# Altium schematic symbol library Interface_UART.SchLib: 143 symbols (part 2 of 2)
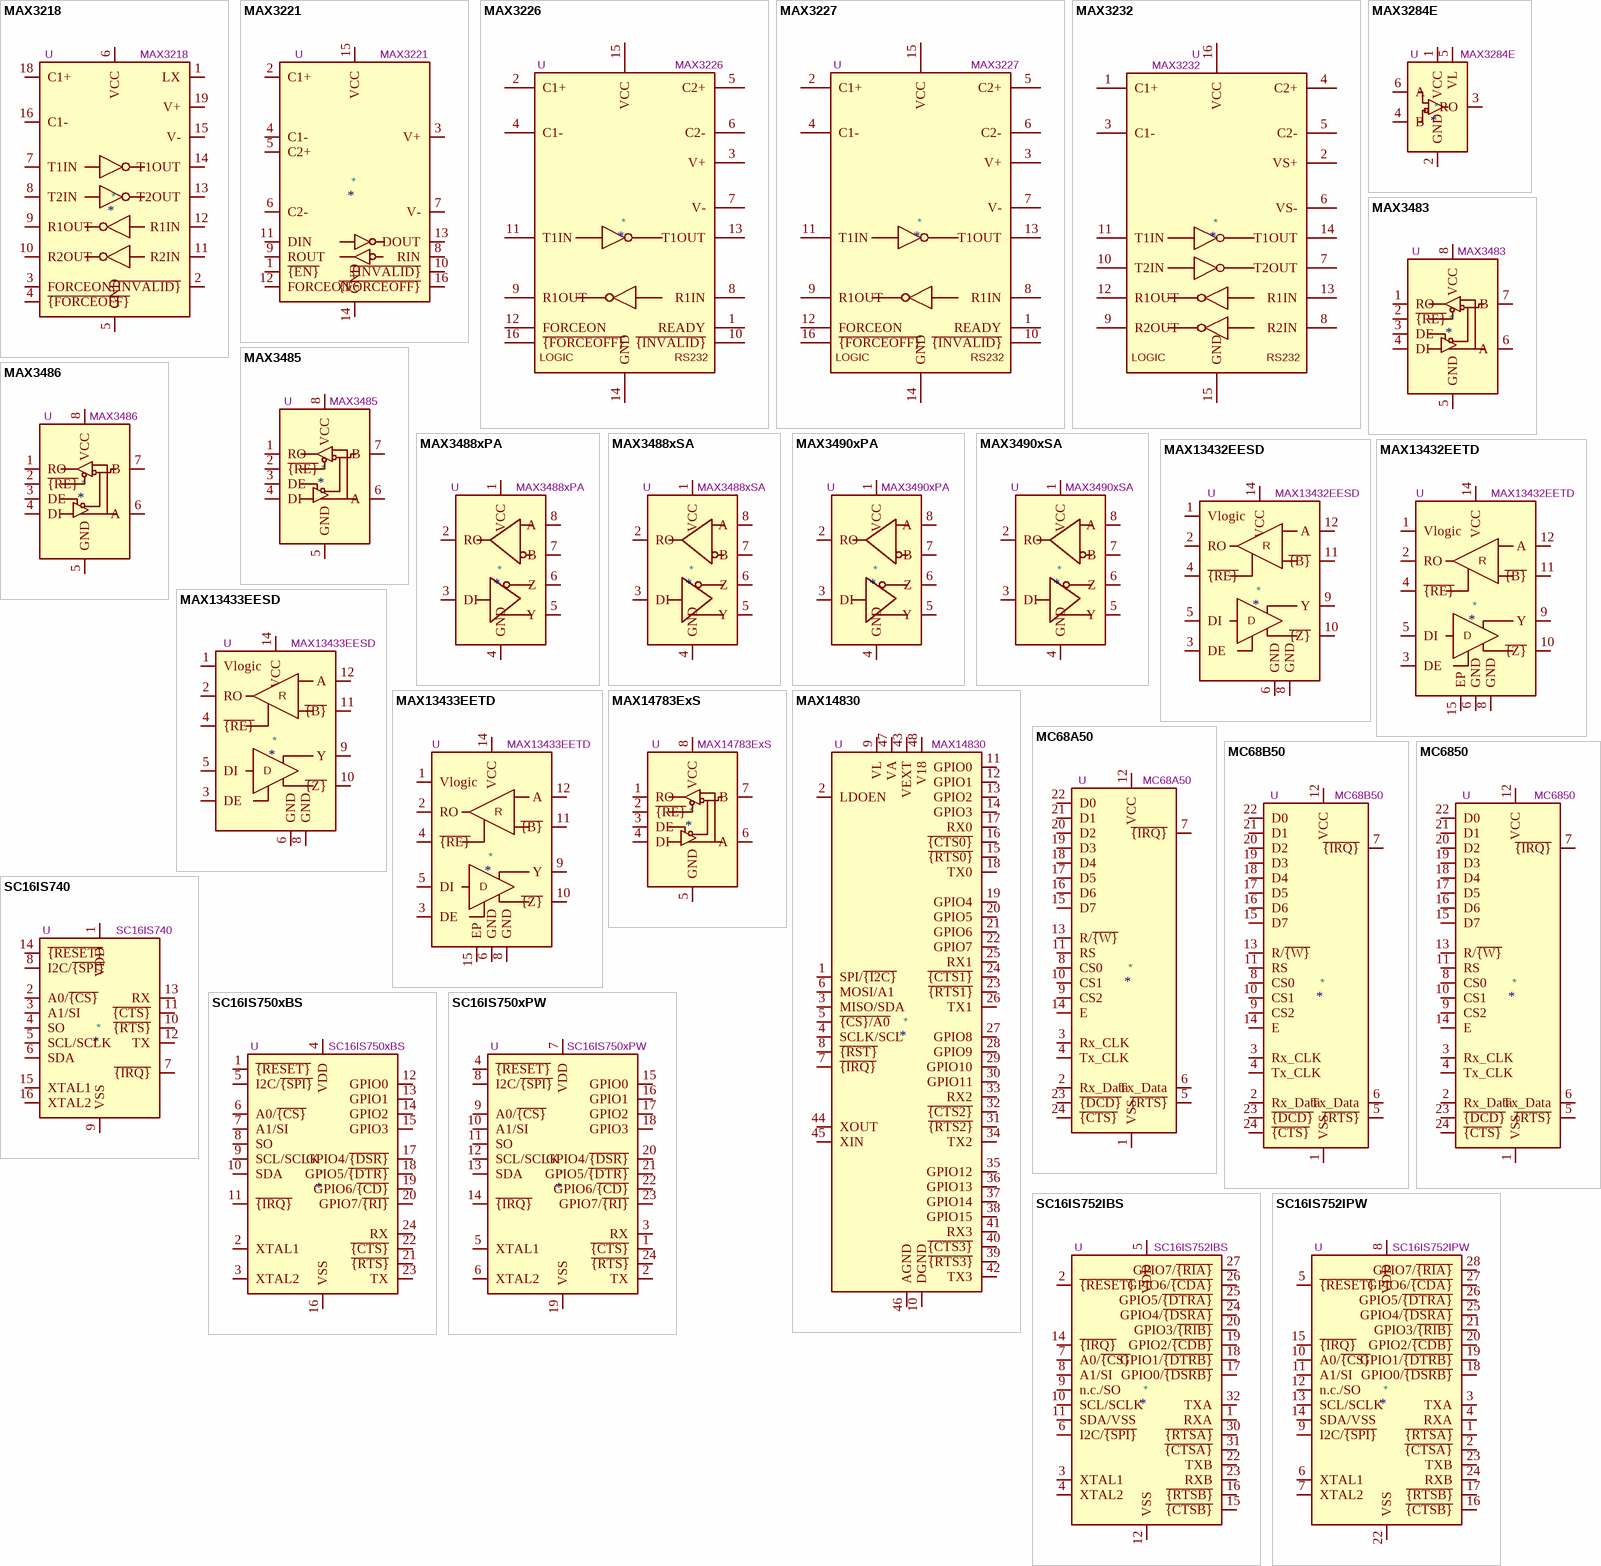
[diagram p5: symbols MAX3218 to SC16IS752IPW]

## MAX13433EETD
designator *  value MAX13433EETD  Reference: U
ki_keywords: rs485 transceiver; ki_description: RS485 transceiver, full duplex, dual supply, receiver/driver enable, 16Mbps, DFN-14 package; ki_fp_filters: DFN*3x3mm*P0.4mm*; Footprint: Package_DFN_QFN:DFN-14-1EP_3x3mm_P0.4mm_EP1.78x2.35mm; Datasheet: https://datasheets.maximintegrated.com/en/ds/MAX13430E-MAX13433E.pdf
pins: 1 Vlogic, 2 RO, 3 DE, 4 ~{{RE}}, 5 DI, 6 GND, 7 NC hidden, 8 GND, 9 Y, 10 ~{{Z}}, 11 ~{{B}}, 12 A, 13 NC hidden, 14 VCC, 15 EP
text: R; D

## MAX14783ExS
designator *  value MAX14783ExS  Reference: U
ki_keywords: High-Speed 3.3V/5V RS-485/RS-422 Transceiver ESD 42Mbps; ki_description: High-Speed 3.3V/5V RS-485/RS-422 Transceiver with ±35kV HBM ESD Protection, SOIC8; ki_fp_filters: SOIC*3.9x4.9mm*P1.27mm*; Footprint: Package_SO:SOIC-8_3.9x4.9mm_P1.27mm; Datasheet: https://datasheets.maximintegrated.com/en/ds/MAX14783E.pdf
pins: 1 RO, 2 ~{{RE}}, 3 DE, 4 DI, 5 GND, 6 A, 7 B, 8 VCC

## MAX14830
designator *  value MAX14830  Reference: U
ki_keywords: UART I2C/SPI 128W FIFO IrDA SIR; ki_description: Quad UART with I2C/SPI interface, 128 Word FIFOs, IrDA SIR built-in support, TQFN-48; ki_fp_filters: TQFN*1EP*7x7mm*P0.5mm*; Footprint: Package_DFN_QFN:TQFN-48-1EP_7x7mm_P0.5mm_EP5.1x5.1mm; Datasheet: https://datasheets.maximintegrated.com/en/ds/MAX14830.pdf
pins: 1 SPI/~{{I2C}}, 2 LDOEN, 3 MISO/SDA, 4 SCLK/SCL, 5 ~{{CS}/A0}, 6 MOSI/A1, 7 ~{{IRQ}}, 8 ~{{RST}}, 9 VL, 10 DGND, 11 GPIO0, 12 GPIO1, 13 GPIO2, 14 GPIO3, 15 ~{{RTS0}}, 16 ~{{CTS0}}, 17 RX0, 18 TX0, 19 GPIO4, 20 GPIO5, 21 GPIO6, 22 GPIO7, 23 ~{{RTS1}}, 24 ~{{CTS1}}, 25 RX1, 26 TX1, 27 GPIO8, 28 GPIO9, 29 GPIO10, 30 GPIO11, 31 ~{{RTS2}}, 32 ~{{CTS2}}, 33 RX2, 34 TX2, 35 GPIO12, 36 GPIO13, 37 GPIO14, 38 GPIO15, 39 ~{{RTS3}}, 40 ~{{CTS3}}, 41 RX3, 42 TX3, 43 VEXT, 44 XOUT, 45 XIN, 46 AGND, 47 VA, 48 V18, 49 AGND hidden

## MC68A50
designator *  value MC68A50  Reference: U
ki_keywords: ACIA; ki_description: Asynchronous Communications Interface Adapter 1.5MHz, DIP-40; ki_fp_filters: DIP*W15.24mm*; Footprint: Package_DIP:DIP-40_W15.24mm; Datasheet: http://pdf.datasheetcatalog.com/datasheet/motorola/MC6850.pdf
pins: 1 VSS, 2 Rx_Data, 3 Rx_CLK, 4 Tx_CLK, 5 ~{{RTS}}, 6 Tx_Data, 7 ~{{IRQ}}, 8 CS0, 9 CS2, 10 CS1, 11 RS, 12 VCC, 13 R/~{{W}}, 14 E, 15 D7, 16 D6, 17 D5, 18 D4, 19 D3, 20 D2, 21 D1, 22 D0, 23 ~{{DCD}}, 24 ~{{CTS}}

## MC68B50
designator *  value MC68B50  Reference: U
ki_keywords: ACIA; ki_description: Asynchronous Communications Interface Adapter 2MHz, DIP-40; ki_fp_filters: DIP*W15.24mm*; Footprint: Package_DIP:DIP-40_W15.24mm; Datasheet: http://pdf.datasheetcatalog.com/datasheet/motorola/MC6850.pdf
pins: 1 VSS, 2 Rx_Data, 3 Rx_CLK, 4 Tx_CLK, 5 ~{{RTS}}, 6 Tx_Data, 7 ~{{IRQ}}, 8 CS0, 9 CS2, 10 CS1, 11 RS, 12 VCC, 13 R/~{{W}}, 14 E, 15 D7, 16 D6, 17 D5, 18 D4, 19 D3, 20 D2, 21 D1, 22 D0, 23 ~{{DCD}}, 24 ~{{CTS}}

## MC6850
designator *  value MC6850  Reference: U
ki_keywords: ACIA; ki_description: Asynchronous Communications Interface Adapter 1MHz, DIP-40; ki_fp_filters: DIP*W15.24mm*; Footprint: Package_DIP:DIP-40_W15.24mm; Datasheet: http://pdf.datasheetcatalog.com/datasheet/motorola/MC6850.pdf
pins: 1 VSS, 2 Rx_Data, 3 Rx_CLK, 4 Tx_CLK, 5 ~{{RTS}}, 6 Tx_Data, 7 ~{{IRQ}}, 8 CS0, 9 CS2, 10 CS1, 11 RS, 12 VCC, 13 R/~{{W}}, 14 E, 15 D7, 16 D6, 17 D5, 18 D4, 19 D3, 20 D2, 21 D1, 22 D0, 23 ~{{DCD}}, 24 ~{{CTS}}

## SC16IS740
designator *  value SC16IS740  Reference: U
ki_keywords: UART I2C/SPI 64B FIFO IrDA SIR; ki_description: Single UART with I2C/SPI interface, 64 bytes of transmit and receive FIFOs, IrDA SIR built-in support, TSSOP-16; ki_fp_filters: TSSOP*4.4x5mm*P0.65mm*; Footprint: Package_SO:TSSOP-16_4.4x5mm_P0.65mm; Datasheet: https://www.nxp.com/docs/en/data-sheet/SC16IS740_750_760.pdf
pins: 1 VDD, 2 A0/~{{CS}}, 3 A1/SI, 4 SO, 5 SCL/SCLK, 6 SDA, 7 ~{{IRQ}}, 8 I2C/~{{SPI}}, 9 VSS, 10 ~{{RTS}}, 11 ~{{CTS}}, 12 TX, 13 RX, 14 ~{{RESET}}, 15 XTAL1, 16 XTAL2

## SC16IS750xBS
designator *  value SC16IS750xBS  Reference: U
ki_keywords: UART I2C/SPI 64B FIFO IrDA SIR; ki_description: Single UART with I2C/SPI interface, 64 bytes of transmit and receive FIFOs, IrDA SIR built-in support, HVQFN-24; ki_fp_filters: HVQFN*1EP*4x4mm*P0.5mm*; Footprint: Package_DFN_QFN:HVQFN-24-1EP_4x4mm_P0.5mm_EP2.5x2.5mm; Datasheet: https://www.nxp.com/docs/en/data-sheet/SC16IS740_750_760.pdf
pins: 1 ~{{RESET}}, 2 XTAL1, 3 XTAL2, 4 VDD, 5 I2C/~{{SPI}}, 6 A0/~{{CS}}, 7 A1/SI, 8 SO, 9 SCL/SCLK, 10 SDA, 11 ~{{IRQ}}, 12 GPIO0, 13 GPIO1, 14 GPIO2, 15 GPIO3, 16 VSS, 17 GPIO4/~{{DSR}}, 18 GPIO5/~{{DTR}}, 19 GPIO6/~{{CD}}, 20 GPIO7/~{{RI}}, 21 ~{{RTS}}, 22 ~{{CTS}}, 23 TX, 24 RX, 25 VSS hidden

## SC16IS750xPW
designator *  value SC16IS750xPW  Reference: U
ki_keywords: UART I2C/SPI 64B FIFO IrDA SIR; ki_description: Single UART with I2C/SPI interface, 64 bytes of transmit and receive FIFOs, IrDA SIR built-in support, TSSOP-24; ki_fp_filters: TSSOP*4.4x7.8mm*P0.65mm*; Footprint: Package_SO:TSSOP-24_4.4x7.8mm_P0.65mm; Datasheet: https://www.nxp.com/docs/en/data-sheet/SC16IS740_750_760.pdf
pins: 1 ~{{CTS}}, 2 TX, 3 RX, 4 ~{{RESET}}, 5 XTAL1, 6 XTAL2, 7 VDD, 8 I2C/~{{SPI}}, 9 A0/~{{CS}}, 10 A1/SI, 11 SO, 12 SCL/SCLK, 13 SDA, 14 ~{{IRQ}}, 15 GPIO0, 16 GPIO1, 17 GPIO2, 18 GPIO3, 19 VSS, 20 GPIO4/~{{DSR}}, 21 GPIO5/~{{DTR}}, 22 GPIO6/~{{CD}}, 23 GPIO7/~{{RI}}, 24 ~{{RTS}}

## SC16IS752IBS
designator *  value SC16IS752IBS  Reference: U
ki_keywords: UART I2C/SPI 64B FIFO IrDA SIR; ki_description: Dual UART with I2C/SPI interface, 64 bytes of transmit and receive FIFOs, IrDA SIR built-in support, HVQFN-32; ki_fp_filters: VQFN*1EP*5x5mm*P0.5mm*; Footprint: Package_DFN_QFN:VQFN-32-1EP_5x5mm_P0.5mm_EP3.1x3.1mm; Datasheet: https://www.nxp.com/docs/en/data-sheet/SC16IS752_SC16IS762.pdf
pins: 1 RXA, 2 ~{{RESET}}, 3 XTAL1, 4 XTAL2, 5 VDD, 6 I2C/~{{SPI}}, 7 A0/~{{CS}}, 8 A1/SI, 9 n.c./SO, 10 SCL/SCLK, 11 SDA/VSS, 12 VSS, 13 VDD hidden, 14 ~{{IRQ}}, 15 ~{{CTSB}}, 16 ~{{RTSB}}, 17 GPIO0/~{{DSRB}}, 18 GPIO1/~{{DTRB}}, 19 GPIO2/~{{CDB}}, 20 GPIO3/~{{RIB}}, 21 VSS hidden, 22 TXB, 23 RXB, 24 GPIO4/~{{DSRA}}, 25 GPIO5/~{{DTRA}}, 26 GPIO6/~{{CDA}}, 27 GPIO7/~{{RIA}}, 28 VDD hidden, 29 VSS hidden, 30 ~{{RTSA}}, 31 ~{{CTSA}}, 32 TXA, 33 VSS hidden

## SC16IS752IPW
designator *  value SC16IS752IPW  Reference: U
ki_keywords: UART I2C/SPI 64B FIFO IrDA SIR; ki_description: Dual UART with I2C/SPI interface, 64 bytes of transmit and receive FIFOs, IrDA SIR built-in support, TSSOP-28; ki_fp_filters: TSSOP*4.4x9.7mm*P0.65mm*; Footprint: Package_SO:TSSOP-28_4.4x9.7mm_P0.65mm; Datasheet: https://www.nxp.com/docs/en/data-sheet/SC16IS752_SC16IS762.pdf
pins: 1 ~{{RTSA}}, 2 ~{{CTSA}}, 3 TXA, 4 RXA, 5 ~{{RESET}}, 6 XTAL1, 7 XTAL2, 8 VDD, 9 I2C/~{{SPI}}, 10 A0/~{{CS}}, 11 A1/SI, 12 n.c./SO, 13 SCL/SCLK, 14 SDA/VSS, 15 ~{{IRQ}}, 16 ~{{CTSB}}, 17 ~{{RTSB}}, 18 GPIO0/~{{DSRB}}, 19 GPIO1/~{{DTRB}}, 20 GPIO2/~{{CDB}}, 21 GPIO3/~{{RIB}}, 22 VSS, 23 TXB, 24 RXB, 25 GPIO4/~{{DSRA}}, 26 GPIO5/~{{DTRA}}, 27 GPIO6/~{{CDA}}, 28 GPIO7/~{{RIA}}

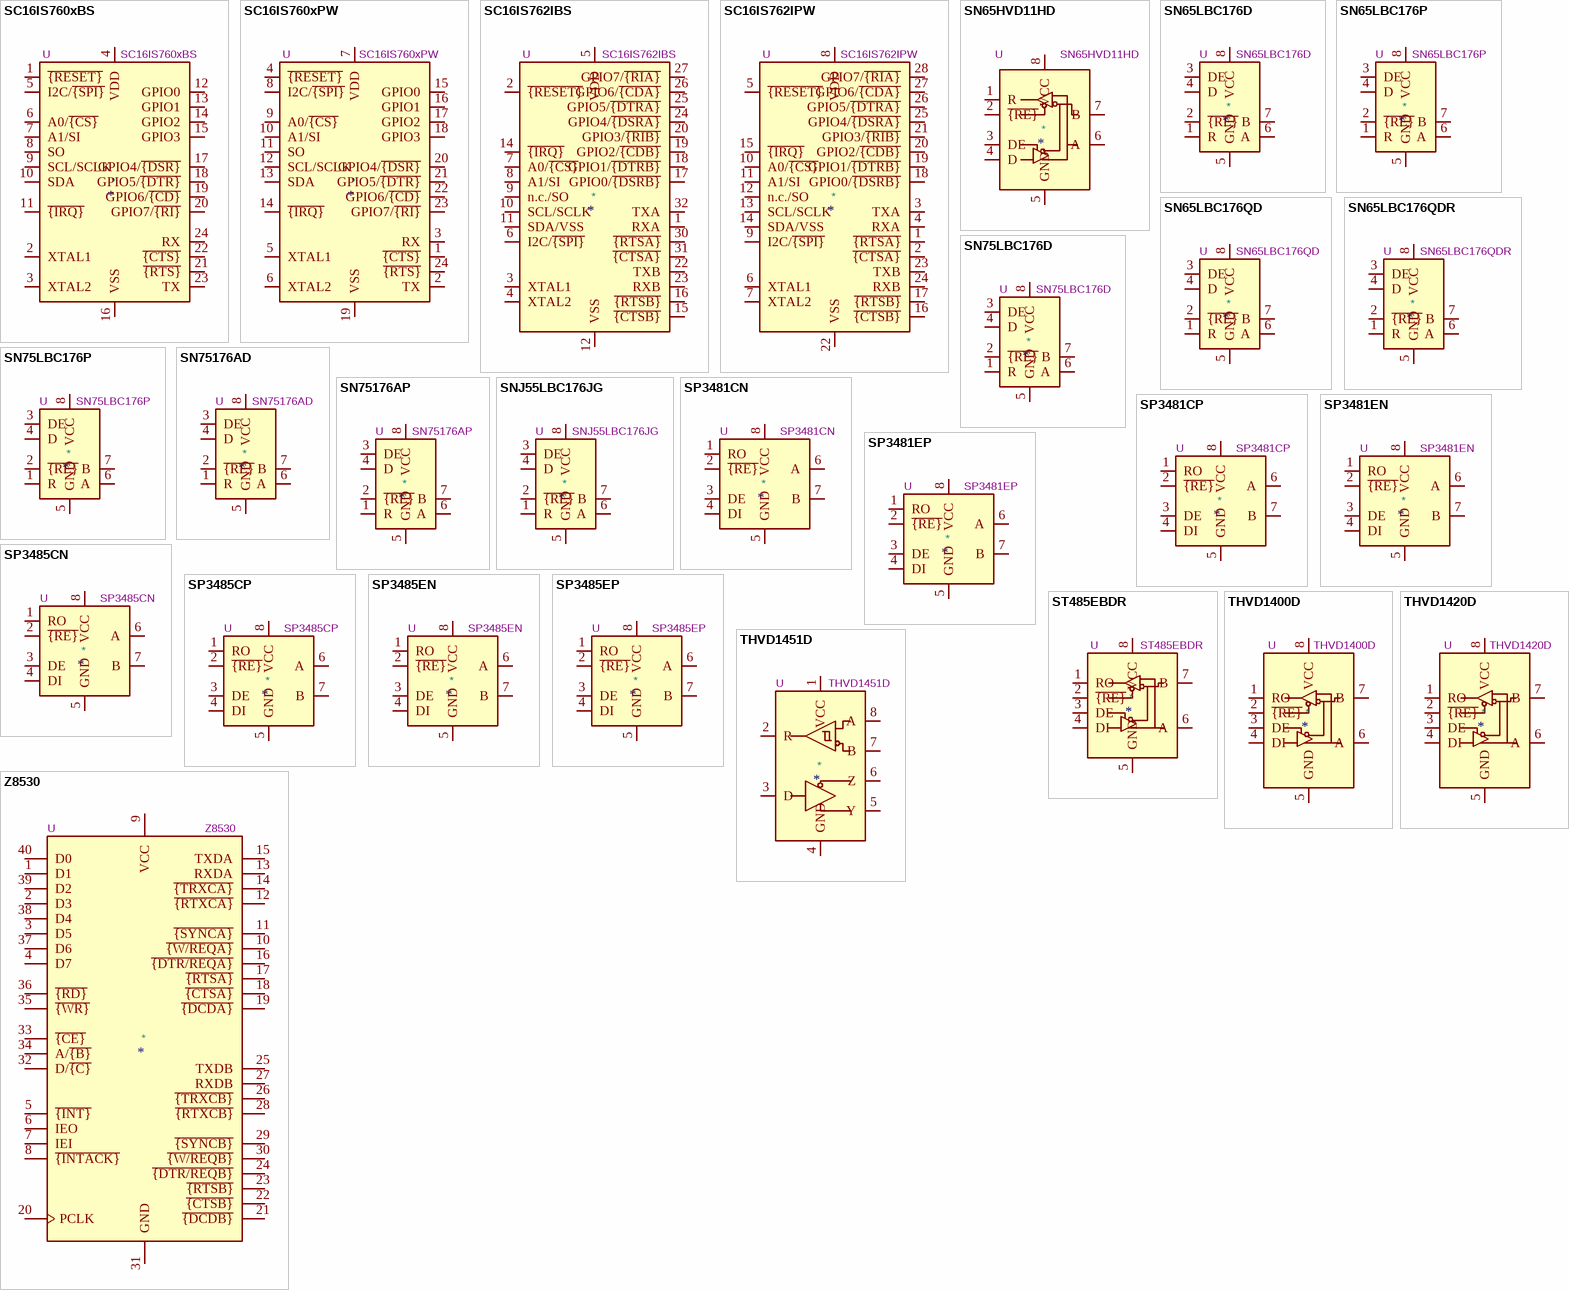
[diagram p4: symbols SC16IS760xBS to Z8530]

## SC16IS760xBS
designator *  value SC16IS760xBS  Reference: U
ki_keywords: UART I2C/SPI 64B FIFO IrDA SIR; ki_description: Single UART with I2C/SPI interface, 64 bytes of transmit and receive FIFOs, IrDA SIR built-in support, HVQFN-24; ki_fp_filters: HVQFN*1EP*4x4mm*P0.5mm*; Footprint: Package_DFN_QFN:HVQFN-24-1EP_4x4mm_P0.5mm_EP2.5x2.5mm; Datasheet: https://www.nxp.com/docs/en/data-sheet/SC16IS740_750_760.pdf
pins: 1 ~{{RESET}}, 2 XTAL1, 3 XTAL2, 4 VDD, 5 I2C/~{{SPI}}, 6 A0/~{{CS}}, 7 A1/SI, 8 SO, 9 SCL/SCLK, 10 SDA, 11 ~{{IRQ}}, 12 GPIO0, 13 GPIO1, 14 GPIO2, 15 GPIO3, 16 VSS, 17 GPIO4/~{{DSR}}, 18 GPIO5/~{{DTR}}, 19 GPIO6/~{{CD}}, 20 GPIO7/~{{RI}}, 21 ~{{RTS}}, 22 ~{{CTS}}, 23 TX, 24 RX, 25 VSS hidden

## SC16IS760xPW
designator *  value SC16IS760xPW  Reference: U
ki_keywords: UART I2C/SPI 64B FIFO IrDA SIR; ki_description: Single UART with I2C/SPI interface, 64 bytes of transmit and receive FIFOs, IrDA SIR built-in support, TSSOP-24; ki_fp_filters: TSSOP*4.4x7.8mm*P0.65mm*; Footprint: Package_SO:TSSOP-24_4.4x7.8mm_P0.65mm; Datasheet: https://www.nxp.com/docs/en/data-sheet/SC16IS740_750_760.pdf
pins: 1 ~{{CTS}}, 2 TX, 3 RX, 4 ~{{RESET}}, 5 XTAL1, 6 XTAL2, 7 VDD, 8 I2C/~{{SPI}}, 9 A0/~{{CS}}, 10 A1/SI, 11 SO, 12 SCL/SCLK, 13 SDA, 14 ~{{IRQ}}, 15 GPIO0, 16 GPIO1, 17 GPIO2, 18 GPIO3, 19 VSS, 20 GPIO4/~{{DSR}}, 21 GPIO5/~{{DTR}}, 22 GPIO6/~{{CD}}, 23 GPIO7/~{{RI}}, 24 ~{{RTS}}

## SC16IS762IBS
designator *  value SC16IS762IBS  Reference: U
ki_keywords: UART I2C/SPI 64B FIFO IrDA SIR; ki_description: Dual UART with I2C/SPI interface, 64 bytes of transmit and receive FIFOs, IrDA SIR built-in support, HVQFN-32; ki_fp_filters: VQFN*1EP*5x5mm*P0.5mm*; Footprint: Package_DFN_QFN:VQFN-32-1EP_5x5mm_P0.5mm_EP3.1x3.1mm; Datasheet: https://www.nxp.com/docs/en/data-sheet/SC16IS752_SC16IS762.pdf
pins: 1 RXA, 2 ~{{RESET}}, 3 XTAL1, 4 XTAL2, 5 VDD, 6 I2C/~{{SPI}}, 7 A0/~{{CS}}, 8 A1/SI, 9 n.c./SO, 10 SCL/SCLK, 11 SDA/VSS, 12 VSS, 13 VDD hidden, 14 ~{{IRQ}}, 15 ~{{CTSB}}, 16 ~{{RTSB}}, 17 GPIO0/~{{DSRB}}, 18 GPIO1/~{{DTRB}}, 19 GPIO2/~{{CDB}}, 20 GPIO3/~{{RIB}}, 21 VSS hidden, 22 TXB, 23 RXB, 24 GPIO4/~{{DSRA}}, 25 GPIO5/~{{DTRA}}, 26 GPIO6/~{{CDA}}, 27 GPIO7/~{{RIA}}, 28 VDD hidden, 29 VSS hidden, 30 ~{{RTSA}}, 31 ~{{CTSA}}, 32 TXA, 33 VSS hidden

## SC16IS762IPW
designator *  value SC16IS762IPW  Reference: U
ki_keywords: UART I2C/SPI 64B FIFO IrDA SIR; ki_description: Dual UART with I2C/SPI interface, 64 bytes of transmit and receive FIFOs, IrDA SIR built-in support, TSSOP-28; ki_fp_filters: TSSOP*4.4x9.7mm*P0.65mm*; Footprint: Package_SO:TSSOP-28_4.4x9.7mm_P0.65mm; Datasheet: https://www.nxp.com/docs/en/data-sheet/SC16IS752_SC16IS762.pdf
pins: 1 ~{{RTSA}}, 2 ~{{CTSA}}, 3 TXA, 4 RXA, 5 ~{{RESET}}, 6 XTAL1, 7 XTAL2, 8 VDD, 9 I2C/~{{SPI}}, 10 A0/~{{CS}}, 11 A1/SI, 12 n.c./SO, 13 SCL/SCLK, 14 SDA/VSS, 15 ~{{IRQ}}, 16 ~{{CTSB}}, 17 ~{{RTSB}}, 18 GPIO0/~{{DSRB}}, 19 GPIO1/~{{DTRB}}, 20 GPIO2/~{{CDB}}, 21 GPIO3/~{{RIB}}, 22 VSS, 23 TXB, 24 RXB, 25 GPIO4/~{{DSRA}}, 26 GPIO5/~{{DTRA}}, 27 GPIO6/~{{CDA}}, 28 GPIO7/~{{RIA}}

## SN65HVD11HD
designator *  value SN65HVD11HD  Reference: U
ki_keywords: rs485 transceiver; ki_description: 3.3V, RS-485 Transceiver, SOIC-8; ki_fp_filters: SOIC*3.9x4.9mm*P1.27mm*; Footprint: Package_SO:SOIC-8_3.9x4.9mm_P1.27mm; Datasheet: http://www.ti.com/lit/ds/symlink/sn65hvd11-ht.pdf
pins: 1 R, 2 ~{{RE}}, 3 DE, 4 D, 5 GND, 6 A, 7 B, 8 VCC

## SN65LBC176D
designator *  value SN65LBC176D  Reference: U
ki_keywords: Differential bus transceiver; ki_description: Differential bus transceiver, SOIC-8; ki_fp_filters: SOIC*3.9x4.9mm*P1.27mm*; Footprint: Package_SO:SOIC-8_3.9x4.9mm_P1.27mm; Datasheet: http://www.ti.com/lit/ds/symlink/sn75lbc176.pdf
pins: 1 R, 2 ~{{RE}}, 3 DE, 4 D, 5 GND, 6 A, 7 B, 8 VCC

## SN65LBC176P
designator *  value SN65LBC176P  Reference: U
ki_keywords: Differential bus transceiver; ki_description: Differential bus transceiver, DIP-8; ki_fp_filters: DIP*W7.62mm*; Footprint: Package_DIP:DIP-8_W7.62mm; Datasheet: http://www.ti.com/lit/ds/symlink/sn75lbc176.pdf
pins: 1 R, 2 ~{{RE}}, 3 DE, 4 D, 5 GND, 6 A, 7 B, 8 VCC

## SN65LBC176QD
designator *  value SN65LBC176QD  Reference: U
ki_keywords: Differential bus transceiver; ki_description: Differential bus transceiver, SOIC-8; ki_fp_filters: SOIC*3.9x4.9mm*P1.27mm*; Footprint: Package_SO:SOIC-8_3.9x4.9mm_P1.27mm; Datasheet: http://www.ti.com/lit/ds/symlink/sn75lbc176.pdf
pins: 1 R, 2 ~{{RE}}, 3 DE, 4 D, 5 GND, 6 A, 7 B, 8 VCC

## SN65LBC176QDR
designator *  value SN65LBC176QDR  Reference: U
ki_keywords: Differential bus transceiver; ki_description: Differential bus transceiver, SOIC-8; ki_fp_filters: SOIC*3.9x4.9mm*P1.27mm*; Footprint: Package_SO:SOIC-8_3.9x4.9mm_P1.27mm; Datasheet: http://www.ti.com/lit/ds/symlink/sn75lbc176.pdf
pins: 1 R, 2 ~{{RE}}, 3 DE, 4 D, 5 GND, 6 A, 7 B, 8 VCC

## SN75LBC176D
designator *  value SN75LBC176D  Reference: U
ki_keywords: Differential bus transceiver; ki_description: Differential bus transceiver, SOIC-8; ki_fp_filters: SOIC*3.9x4.9mm*P1.27mm*; Footprint: Package_SO:SOIC-8_3.9x4.9mm_P1.27mm; Datasheet: http://www.ti.com/lit/ds/symlink/sn75lbc176.pdf
pins: 1 R, 2 ~{{RE}}, 3 DE, 4 D, 5 GND, 6 A, 7 B, 8 VCC

## SN75LBC176P
designator *  value SN75LBC176P  Reference: U
ki_keywords: Differential bus transceiver; ki_description: Differential bus transceiver, DIP-8; ki_fp_filters: DIP*W7.62mm*; Footprint: Package_DIP:DIP-8_W7.62mm; Datasheet: http://www.ti.com/lit/ds/symlink/sn75lbc176.pdf
pins: 1 R, 2 ~{{RE}}, 3 DE, 4 D, 5 GND, 6 A, 7 B, 8 VCC

## SN75176AD
designator *  value SN75176AD  Reference: U
ki_keywords: Differential bus transceiver; ki_description: Differential RS-422/RS-485 bus transceiver, SOIC-8; ki_fp_filters: SOIC*3.9x4.9mm*P1.27mm*; Footprint: Package_SO:SOIC-8_3.9x4.9mm_P1.27mm; Datasheet: http://www.ti.com/lit/ds/symlink/sn75176a.pdf
pins: 1 R, 2 ~{{RE}}, 3 DE, 4 D, 5 GND, 6 A, 7 B, 8 VCC

## SN75176AP
designator *  value SN75176AP  Reference: U
ki_keywords: Differential bus transceiver; ki_description: Differential RS-422/RS-485 bus transceiver, DIP-8; ki_fp_filters: DIP*W7.62mm*; Footprint: Package_DIP:DIP-8_W7.62mm; Datasheet: http://www.ti.com/lit/ds/symlink/sn75176a.pdf
pins: 1 R, 2 ~{{RE}}, 3 DE, 4 D, 5 GND, 6 A, 7 B, 8 VCC

## SNJ55LBC176JG
designator *  value SNJ55LBC176JG  Reference: U
ki_keywords: Differential bus transceiver; ki_description: Differential bus transceiver, ceramic DIP-8; ki_fp_filters: DIP*W7.62mm*; Footprint: Package_DIP:DIP-8_W7.62mm; Datasheet: http://www.ti.com/lit/ds/symlink/sn75lbc176.pdf
pins: 1 R, 2 ~{{RE}}, 3 DE, 4 D, 5 GND, 6 A, 7 B, 8 VCC

## SP3481CN
designator *  value SP3481CN  Reference: U
ki_keywords: Low Power Half-Duplex RS-485 Transceiver 10Mbps; ki_description: 3.3V Low Power Half-Duplex RS-485 Transceiver 10Mbps, SOIC-8; ki_fp_filters: SOIC*3.9x4.9mm*P1.27mm*; Footprint: Package_SO:SOIC-8_3.9x4.9mm_P1.27mm; Datasheet: http://www.icbase.com/pdf/SPX/SPX00480106.pdf
pins: 1 RO, 2 ~{{RE}}, 3 DE, 4 DI, 5 GND, 6 A, 7 B, 8 VCC

## SP3481CP
designator *  value SP3481CP  Reference: U
ki_keywords: Low Power Half-Duplex RS-485 Transceiver 10Mbps; ki_description: 3.3V Low Power Half-Duplex RS-485 Transceiver 10Mbps, DIP8; ki_fp_filters: DIP*W7.62mm*; Footprint: Package_DIP:DIP-8_W7.62mm; Datasheet: http://www.icbase.com/pdf/SPX/SPX00480106.pdf
pins: 1 RO, 2 ~{{RE}}, 3 DE, 4 DI, 5 GND, 6 A, 7 B, 8 VCC

## SP3481EN
designator *  value SP3481EN  Reference: U
ki_keywords: Low Power Half-Duplex RS-485 Transceiver 10Mbps; ki_description: Industrial 3.3V Low Power Half-Duplex RS-485 Transceiver 10Mbps, SOIC-8; ki_fp_filters: SOIC*3.9x4.9mm*P1.27mm*; Footprint: Package_SO:SOIC-8_3.9x4.9mm_P1.27mm; Datasheet: http://www.icbase.com/pdf/SPX/SPX00480106.pdf
pins: 1 RO, 2 ~{{RE}}, 3 DE, 4 DI, 5 GND, 6 A, 7 B, 8 VCC

## SP3481EP
designator *  value SP3481EP  Reference: U
ki_keywords: Low Power Half-Duplex RS-485 Transceiver 10Mbps; ki_description: Industrial 3.3V Low Power Half-Duplex RS-485 Transceiver 10Mbps, DIP8; ki_fp_filters: DIP*W7.62mm*; Footprint: Package_DIP:DIP-8_W7.62mm; Datasheet: http://www.icbase.com/pdf/SPX/SPX00480106.pdf
pins: 1 RO, 2 ~{{RE}}, 3 DE, 4 DI, 5 GND, 6 A, 7 B, 8 VCC

## SP3485CN
designator *  value SP3485CN  Reference: U
ki_keywords: Low Power Half-Duplex RS-485 Transceiver 10Mbps; ki_description: 3.3V Low Power Half-Duplex RS-485 Transceiver 10Mbps, SOIC-8; ki_fp_filters: SOIC*3.9x4.9mm*P1.27mm*; Footprint: Package_SO:SOIC-8_3.9x4.9mm_P1.27mm; Datasheet: http://www.icbase.com/pdf/SPX/SPX00480106.pdf
pins: 1 RO, 2 ~{{RE}}, 3 DE, 4 DI, 5 GND, 6 A, 7 B, 8 VCC

## SP3485CP
designator *  value SP3485CP  Reference: U
ki_keywords: Low Power Half-Duplex RS-485 Transceiver 10Mbps; ki_description: 3.3V Low Power Half-Duplex RS-485 Transceiver 10Mbps, DIP8; ki_fp_filters: DIP*W7.62mm*; Footprint: Package_DIP:DIP-8_W7.62mm; Datasheet: http://www.icbase.com/pdf/SPX/SPX00480106.pdf
pins: 1 RO, 2 ~{{RE}}, 3 DE, 4 DI, 5 GND, 6 A, 7 B, 8 VCC

## SP3485EN
designator *  value SP3485EN  Reference: U
ki_keywords: Low Power Half-Duplex RS-485 Transceiver 10Mbps; ki_description: Industrial 3.3V Low Power Half-Duplex RS-485 Transceiver 10Mbps, SOIC-8; ki_fp_filters: SOIC*3.9x4.9mm*P1.27mm*; Footprint: Package_SO:SOIC-8_3.9x4.9mm_P1.27mm; Datasheet: http://www.icbase.com/pdf/SPX/SPX00480106.pdf
pins: 1 RO, 2 ~{{RE}}, 3 DE, 4 DI, 5 GND, 6 A, 7 B, 8 VCC

## SP3485EP
designator *  value SP3485EP  Reference: U
ki_keywords: Low Power Half-Duplex RS-485 Transceiver 10Mbps; ki_description: Industrial 3.3V Low Power Half-Duplex RS-485 Transceiver 10Mbps, DIP8; ki_fp_filters: DIP*W7.62mm*; Footprint: Package_DIP:DIP-8_W7.62mm; Datasheet: http://www.icbase.com/pdf/SPX/SPX00480106.pdf
pins: 1 RO, 2 ~{{RE}}, 3 DE, 4 DI, 5 GND, 6 A, 7 B, 8 VCC

## ST485EBDR
designator *  value ST485EBDR  Reference: U
ki_keywords: Half duplex RS-485/RS-422, 5 Mbps, ±15kV  256 transceiver bus; ki_description: Half duplex RS-485/RS-422, 5 Mbps, ±15kV electro-static discharge (ESD) protection, no slew-rate, with low-power shutdown, with receiver/driver enable, 256 transceiver on the bus - 40 to 85 °C, SOIC-8; ki_fp_filters: SOIC*3.9x4.9mm*P1.27mm*; Footprint: Package_SO:SOIC-8_3.9x4.9mm_P1.27mm; Datasheet: http://www.st.com/resource/en/datasheet/st485eb.pdf
pins: 1 RO, 2 ~{{RE}}, 3 DE, 4 DI, 5 GND, 6 A, 7 B, 8 VCC

## THVD1400D
designator *  value THVD1400D  Reference: U
ki_keywords: Half duplex 3.3V 5V RS-485 RS-422; ki_description: Half duplex RS-485/RS-422, 500 Kbps, 3V - 5.5V supply, ±12kV electro-static discharge (ESD) protection, with receiver/driver enable, 32 receiver drive capacity, SOIC-8; ki_fp_filters: SOIC*3.9x4.9mm*P1.27mm*; Footprint: Package_SO:SOIC-8_3.9x4.9mm_P1.27mm; Datasheet: https://www.ti.com/lit/ds/symlink/thvd1420.pdf
pins: 1 RO, 2 ~{{RE}}, 3 DE, 4 DI, 5 GND, 6 A, 7 B, 8 VCC

## THVD1420D
designator *  value THVD1420D  Reference: U
ki_keywords: Half duplex 3.3V 5V RS-485 RS-422; ki_description: Half duplex RS-485/RS-422, 12 Mbps, 3V - 5.5V supply, ±12kV electro-static discharge (ESD) protection, with receiver/driver enable, 32 receiver drive capacity, SOIC-8; ki_fp_filters: SOIC*3.9x4.9mm*P1.27mm*; Footprint: Package_SO:SOIC-8_3.9x4.9mm_P1.27mm; Datasheet: https://www.ti.com/lit/ds/symlink/thvd1420.pdf
pins: 1 RO, 2 ~{{RE}}, 3 DE, 4 DI, 5 GND, 6 A, 7 B, 8 VCC

## THVD1451D
designator *  value THVD1451D  Reference: U
ki_keywords: rs485 transceiver line driver; ki_description: RS485 transceiver, 3.3-V to 5-V, 18-kV IEC ESD Protection, SOIC-8; ki_fp_filters: SOIC*3.9x4.9mm*P1.27mm*; Footprint: Package_SO:SOIC-8_3.9x4.9mm_P1.27mm; Datasheet: http://www.ti.com/lit/ds/symlink/thvd1451.pdf
pins: 1 VCC, 2 R, 3 D, 4 GND, 5 Y, 6 Z, 7 B, 8 A

## Z8530
designator *  value Z8530  Reference: U
ki_keywords: SCC Serial Communication; ki_description: SCC Serial Communication Controller, DIP-40; ki_fp_filters: DIP* PDIP*
pins: 1 D1, 2 D3, 3 D5, 4 D7, 5 ~{{INT}}, 6 IEO, 7 IEI, 8 ~{{INTACK}}, 9 VCC, 10 ~{{W/REQA}}, 11 ~{{SYNCA}}, 12 ~{{RTXCA}}, 13 RXDA, 14 ~{{TRXCA}}, 15 TXDA, 16 ~{{DTR/REQA}}, 17 ~{{RTSA}}, 18 ~{{CTSA}}, 19 ~{{DCDA}}, 20 PCLK, 21 ~{{DCDB}}, 22 ~{{CTSB}}, 23 ~{{RTSB}}, 24 ~{{DTR/REQB}}, 25 TXDB, 26 ~{{TRXCB}}, 27 RXDB, 28 ~{{RTXCB}}, 29 ~{{SYNCB}}, 30 ~{{W/REQB}}, 31 GND, 32 D/~{{C}}, 33 ~{{CE}}, 34 A/~{{B}}, 35 ~{{WR}}, 36 ~{{RD}}, 37 D6, 38 D4, 39 D2, 40 D0